# Altium footprint library SMB-2.PcbLib: 1 footprints
Each footprint in its own frame and in the unit in brackets; x right, y up, seen from the top. Pads: shape width x height; smd on the part's side, far side on the other; paste and mask are expansions set on the pad; w line width, h text height; cw(c..) or ccw(c..) is an arc to the next point about the centre after c.
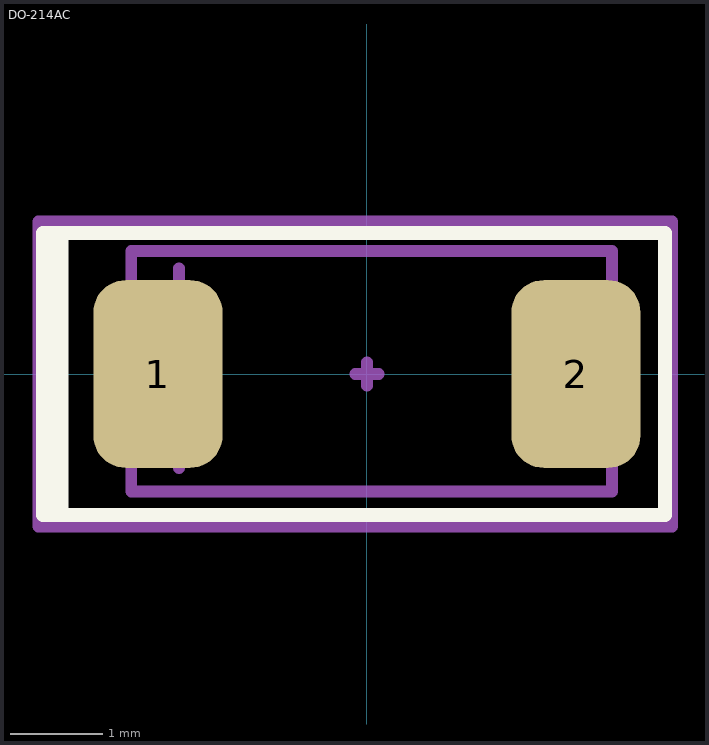
[diagram p0: the footprint, top view; thin cyan lines are the x and y axes]

## DO-214AC [mil] "DO-214A;SMA"
pads (2):
  rrect50% 55x80 smd mask+1.97: 1(-89,0) 2(89,0)
Top Overlay:
  region: -127.03,60 -141.03,60 -141.03,-60 -127.03,-60
  lines w6: -138,-60 127,-60 127,60 -138,60
Top Assembly:
  lines w5: -80,-40 -80,45 ; -100.36,-50 -100.36,52.36 104.36,52.36 104.36,-50 -100.36,-50
Top Courtyard:
  lines w5: -5,0 5,0 ; 0,-5 0,5 ; -140,-65 -140,65 130,65 130,-65 -140,-65
3D body "SW3dPS-DO-214AC SMA.STEP": height 95.19, standoff 0.6, extent -100.36,-50 104.36,52.37